# Altium footprint library converter.PcbLib: 44 footprints (part 3 of 3)
Each footprint in its own frame and in the unit in brackets; x right, y up, seen from the top. Pads: shape width x height; smd on the part's side, far side on the other; paste and mask are expansions set on the pad; w line width, h text height; cw(c..) or ccw(c..) is an arc to the next point about the centre after c.
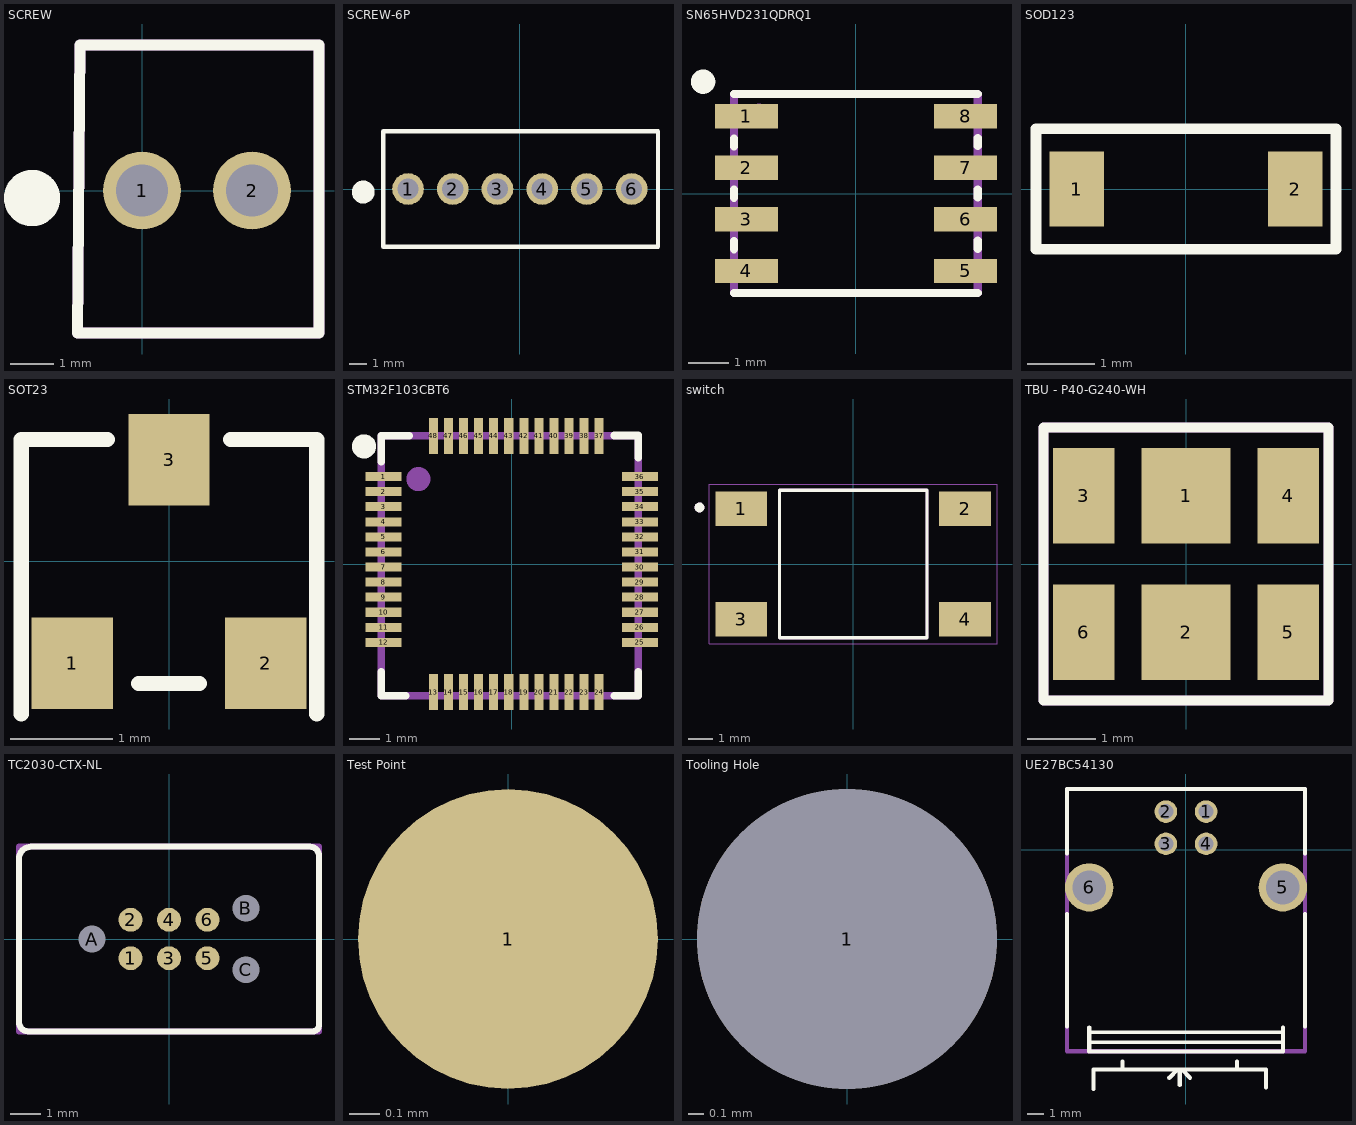
[diagram p2: the footprints below, top view; thin cyan lines are the x and y axes]

## SCREW [mm]
pads (2):
  round 1.8 hole 1.2: 1(0,0) 2(2.54,0)
Top Overlay:
  circle w0.7: c-2.541,-0.174 r0.3
  lines w0.254: -1.492,-3.294 4.087,-3.294 4.087,3.366 -1.43,3.366 -1.492,-3.294
Mechanical 29:
  circle w0.7: c0,0 r0.3
  circle w0.508: c0,0 r0.127
  lines w0.254: -1.492,-3.294 4.087,-3.294 4.087,3.366 -1.43,3.366 -1.492,-3.294
  text "'.Designator'" at -1.2,-0.4 h1
3D body "OSTVN02A150.stp": height 8.51, standoff -3.49, extent -1.43,-3.207 4.05,3.293

## SCREW-6P [mm]
pads (6):
  round 1.8 hole 1.2: 1(-6.35,0) 2(-3.81,0) 3(-1.27,0) 4(1.27,0) 5(3.81,0) 6(6.35,0)
Top Overlay:
  circle w0.7: c-8.891,-0.174 r0.3
  lines w0.254: -7.75,-3.288 7.85,-3.288 7.85,3.288 -7.75,3.288 -7.75,-3.288
Mechanical 29:
  circle w0.508: c-6.35,0 r0.127
  circle w0.7: c-6.35,0 r0.3
  circle w0.508: c-6.35,0 r0.127
  text "'.Designator'" at -6.35,0 h1
3D body "c-282834-6-c-3d.stp": height 10.01, standoff -3.39, extent -7.788,-3.235 7.912,3.265

## SN65HVD231QDRQ1 [mm]
pads (8):
  rect 1.55x0.6 smd mask+0.107: 1(-2.7,1.905) 2(-2.7,0.635) 3(-2.7,-0.635) 4(-2.7,-1.905) 5(2.7,-1.905) 6(2.7,-0.635) 7(2.7,0.635) 8(2.7,1.905)
Top Overlay:
  circle w0.3: c-3.766,2.757 r0.15
  lines w0.2: -3,-2.45 3,-2.45 ; -3,-1.37 -3,-1.17 ; -3,-0.101 -3,0.099 ; -3,1.16 -3,1.36 ; -3,2.45 3,2.45 ; 3,-1.36 3,-1.16 ; 3,-0.099 3,0.101 ; 3,1.17 3,1.37
Mechanical 29:
  circle w0.3: c-2.384,1.916 r0.15
  lines w0.2: -3,-2.45 -3,2.45 3,2.45 3,-2.45 -3,-2.45
  text "'.Designator'" at -2.435,-0.306 h0.8
3D body "SN65HVD231QDRQ1.stp": height 1.75, standoff 0, extent -2.997,-2.452 2.998,2.453

## SOD123 [mm]
pads (2):
  rect 0.81x1.12 smd: 1(-1.635,0) 2(1.635,0)
Top Overlay:
  lines w0.16: -2.244,-0.9 -2.244,0.9 2.244,0.9 2.244,-0.9 -2.244,-0.9
Mechanical 29:
  text "'.Designator'" at -1.94,-0.27 h0.6
3D body "PowerDI-323.stp": height 1.25, standoff -0.41, extent -1.509,-0.958 1.491,0.92
3D body: height 0.86, standoff 0.86, extent -0.942,-0.624 -0.178,0.64

## SOT23 [mm]
pads (3):
  rect 0.8x0.9 smd: 1(-0.95,-1) 2(0.95,-1) 3(0,1)
Top Overlay:
  lines w0.15: -1.454,-1.5 -1.454,1.2 -0.604,1.2 ; -0.3,-1.2 0.3,-1.2 ; 0.604,1.2 1.454,1.2 1.454,-1.5
Mechanical 29:
  text "'.Designator'" at -1.856,-0.181 h0.5
3D body "DMG2302UK-7.stp": height 1.1, standoff 0, extent -1.45,-1.2 1.45,1.2

## STM32F103CBT6 [mm]
pads (48):
  rect 1.2x0.3 smd mask+0.051: 1(-4.25,2.9) 2(-4.25,2.4) 3(-4.25,1.9) 4(-4.25,1.4) 5(-4.25,0.9) 6(-4.25,0.4) 7(-4.25,-0.1) 8(-4.25,-0.6) 9(-4.25,-1.1) 10(-4.25,-1.6) 11(-4.25,-2.1) 12(-4.25,-2.6) 25(4.25,-2.6) 26(4.25,-2.1) 27(4.25,-1.6) 28(4.25,-1.1) 29(4.25,-0.6) 30(4.25,-0.1) 31(4.25,0.4) 32(4.25,0.9) 33(4.25,1.4) 34(4.25,1.9) 35(4.25,2.4) 36(4.25,2.9)
  rect 0.3x1.2 smd mask+0.051: 13(-2.6,-4.25) 14(-2.1,-4.25) 15(-1.6,-4.25) 16(-1.1,-4.25) 17(-0.6,-4.25) 18(-0.1,-4.25) 19(0.4,-4.25) 20(0.9,-4.25) 21(1.4,-4.25) 22(1.9,-4.25) 23(2.4,-4.25) 24(2.9,-4.25) 37(2.9,4.25) 38(2.4,4.25) 39(1.9,4.25) 40(1.4,4.25) 41(0.9,4.25) 42(0.4,4.25) 43(-0.1,4.25) 44(-0.6,4.25) 45(-1.1,4.25) 46(-1.6,4.25) 47(-2.1,4.25) 48(-2.6,4.25)
Top Overlay:
  circle w0.4: c-4.9,3.9 r0.2
  lines w0.254: -4.325,-3.572 -4.325,-4.372 -3.525,-4.372 ; -4.325,3.4 -4.325,4.2 ; -4.325,4.249 -3.4,4.249 ; 3.396,-4.372 4.197,-4.372 4.196,-3.572 ; 3.4,4.26 4.2,4.26 4.2,3.525
Mechanical 29:
  circle w0.4: c-3.095,2.815 r0.2
  lines w0.254: -4.325,-4.372 4.197,-4.372 4.197,4.249 -4.325,4.249 -4.325,-4.363
  text "'.Designator'" at -2.346,-0.863 h1.52
3D body "LQFP48-7x7mm.step": height 1.6, standoff 0, extent -4.347,-4.347 4.647,4.647

## switch [mm]
pads (4):
  rect 2.1x1.4 smd: 1(-4.55,2.25) 2(4.55,2.25) 3(-4.55,-2.25) 4(4.55,-2.25)
Top Overlay:
  circle w0.2: c-6.25,2.3 r0.1
  lines w0.127: -3,-3 -3,3 3,3 3,-3 -3,-3
Mechanical 13:
  circle w0.2: c-6.25,2.3 r0.1
  lines w0.127: -3,-3 3,-3 3,3 -3,3 -3,-3
Mechanical 15:
  lines w0.05: -5.85,-3.25 5.85,-3.25 5.85,3.25 -5.85,3.25 -5.85,-3.25
Mechanical 29:
  text "''.Designator'" at -2.667,-0.508 h0.5

## TBU - P40-G240-WH [mm]
pads (6):
  rect 1.3x1.4 smd mask+0.06: 1(0,1) 2(0,-1)
  rect 0.9x1.4 smd mask+0.06: 3(-1.5,1) 4(1.5,1) 5(1.5,-1) 6(-1.5,-1)
Top Overlay:
  lines w0.15: -2.09,-2 -2.09,2 2.09,2 2.09,-2 -2.09,-2 ; -2.09,-2 -2.09,-2
Mechanical 29:
  lines w0.15: -2.09,-2 2.09,-2 2.09,2 -2.09,2 -2.09,-2
  text "'.Designator'" at -1.535,-0.431 h0.5
3D body "R1206.stp": height 0.56, standoff 0.01, extent -1.6,-1.8 1.6,-0.2
3D body "R1206.stp": height 0.56, standoff 0.01, extent -1.6,0.2 1.6,1.8
3D body "p40.stp": height 0.89, standoff 0.01, extent -2,-2 2,2

## TC2030-CTX-NL [mil]
pads (9):
  round 31 smd paste-19.68: 1(-50,-25) 2(-50,25) 3(0,-25) 4(0,25) 5(50,-25) 6(50,25)
  round 34 hole 35 unplated: A(-100,0) B(100,40) C(100,-40)
Top Overlay:
  lines w7.87: -195,-108.15 ccw(c-183.15,-108.15) -183.15,-120 187.09,-120 ccw(c187.09,-112.09) 195,-112.09 195,108.15 ccw(c183.15,108.15) 183.15,120 -179.21,120 ccw(c-179.21,104.21) -195,104.21 -195,-108.15
Mechanical 29:
  lines w7.87: -194.88,-120.08 195,-120.08 195,120.08 -194.88,120.08 -194.88,-120.08
  text "'.Designator'" at -82.68,-23.62 h33.46

## Test Point [mm]
pads (1):
  round 1 smd paste-1: 1(0,0)

## Tooling Hole [mm]
pads (1):
  round 2 hole 2 unplated: 1(0,0)

## UE27BC54130 [mm]
pads (6):
  round 1.4 hole 0.92: 1(1.25,2.355) 2(-1.25,2.355) 3(-1.25,0.355) 4(1.25,0.355)
  round 3 hole 2.1: 5(6.02,-2.355) 6(-6.02,-2.355)
Top Overlay:
  lines w0.254: -7.4,-11 -7.4,-4 ; -7.4,-0.25 -7.4,3.761 ; -6.02,-12.543 6.023,-12.543 ; -6.017,-11.965 6.024,-12 ; -6.017,-11.373 6.025,-11.345 ; -6.017,-12.543 -6.017,-11.055 ; -5.739,-14.887 -5.739,-13.687 4.961,-13.687 4.961,-14.787 ; -3.939,-13.636 -3.939,-13.187 ; -1.039,-14.187 -0.539,-13.687 -0.389,-13.687 ; -0.389,-14.637 -0.389,-13.687 ; 0.261,-14.187 -0.239,-13.687 -0.389,-13.687 ; 3.161,-13.657 3.161,-13.187 ; 6.025,-12.545 6.025,-11.061 ; 7.4,-11 7.4,-4 ; 7.4,-0.25 7.4,3.761 -7.4,3.761 ; -7.4,3.761 -7.4,3.761
Mechanical 29:
  lines w0.254: -7.4,-12.539 7.4,-12.539 7.4,3.761 -7.4,3.761 -7.4,-12.539
  text "'.Designator'" at -4.094,-4.163 h1.5
3D body "m-ue27-bcx4-x3x-revt1.stp": height 11.1, standoff -4.06, extent -7.502,-12.625 7.399,3.875